# Altium footprint library RESISTORS.PcbLib: 18 footprints (part 1 of 2)
Each footprint in its own frame and in the unit in brackets; x right, y up, seen from the top. Pads: shape width x height; smd on the part's side, far side on the other; paste and mask are expansions set on the pad; w line width, h text height; cw(c..) or ccw(c..) is an arc to the next point about the centre after c.
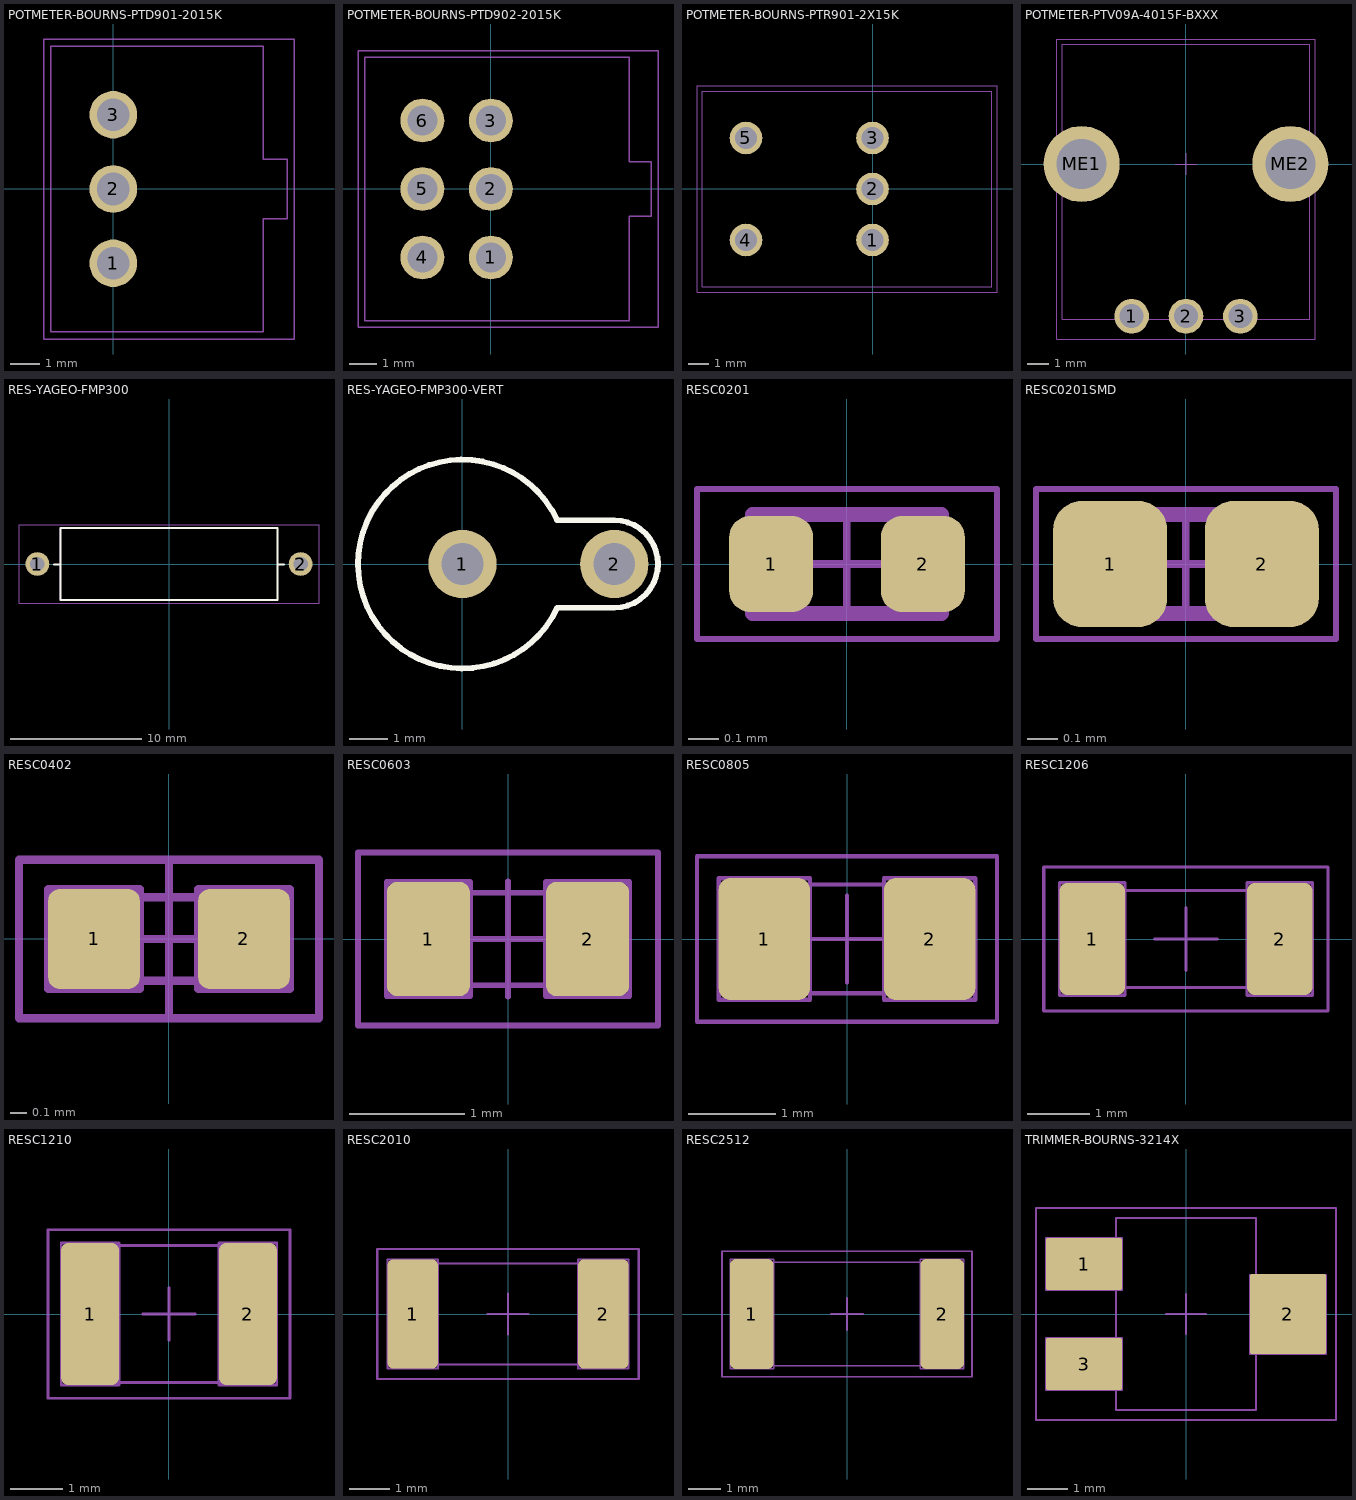
[diagram p0: the footprints below, top view; thin cyan lines are the x and y axes]

## POTMETER-BOURNS-PTD901-2015K [mm]
pads (3):
  round 1.6 hole 1.1: 1(0,-2.5) 2(0,0) 3(0,2.5)
Top Courtyard:
  lines w0.05: -0.5,0 0,0 ; 0,-0.5 0,0 ; 0,0.5 0,0 ; 0.5,0 0,0 ; -2.35,-5.05 -2.35,5.05 6.1,5.05 6.1,-5.05 -2.35,-5.05
Top Assembly:
  lines w0.05: 5.05,-1 5.05,-1 ; 5.05,-4.8 -2.1,-4.8 -2.1,4.8 5.05,4.8 5.05,1 ; 5.05,-4.8 5.05,-1 ; 5.05,-4.8 5.05,-4.8 ; 5.05,-1 5.85,-1 5.85,1 5.05,1 ; 5.05,1 5.05,1
3D body "ptd901-xx15k-xxxx.stp": height 11.36, standoff -3.49, extent -2.1,-4.8 20.05,4.8
3D body "Davies 1900H (blue).stp": height 12.85, standoff 0.15, extent 11,-6.348 27,6.347

## POTMETER-BOURNS-PTD902-2015K [mm]
pads (6):
  round 1.6 hole 1.1: 1(0,-2.5) 2(0,0) 3(0,2.5) 4(-2.5,-2.5) 5(-2.5,0) 6(-2.5,2.5)
Top Courtyard:
  lines w0.05: -0.5,0 0,0 ; 0,-0.5 0,0 ; 0,0.5 0,0 ; 0.5,0 0,0 ; -4.85,-5.05 -4.85,5.05 6.1,5.05 6.1,-5.05 -4.85,-5.05
Top Assembly:
  lines w0.05: 5.05,4.8 -4.6,4.8 -4.6,-4.8 5.05,-4.8 5.05,-1 5.85,-1 5.85,1 5.05,1 5.05,4.8 ; 5.05,4.8 5.05,4.8
3D body "Davies 1900H (blue).stp": height 12.85, standoff 0.15, extent 11,-6.348 27,6.347
3D body "ptd902-xx15k-xxxx.stp": height 11.36, standoff -3.49, extent -4.6,-4.8 20.05,4.8

## POTMETER-BOURNS-PTR901-2X15K [mm]
pads (5):
  round 1.6 hole 1.1: 1(0,-2.5) 2(0,0) 3(0,2.5) 4(-6.2,-2.5) 5(-6.2,2.5)
Top Courtyard:
  lines w0.05: -0.5,0 0,0 ; 0,-0.5 0,0 ; 0,0.5 0,0 ; 0.5,0 0,0 ; -8.6,-5.05 -8.6,5.05 6.1,5.05 6.1,-5.05 -8.6,-5.05
Top Assembly:
  lines w0.05: -8.35,-4.8 -8.35,4.8 5.85,4.8 5.85,-4.8 -8.35,-4.8
3D body "ptr901-2x15k-xxxx.stp": height 11.36, standoff -3.49, extent -8.35,-4.8 20.05,4.8
3D body "Davies 1900H (blue).stp": height 12.85, standoff 0.15, extent 11,-6.348 27,6.347

## POTMETER-PTV09A-4015F-BXXX [mm]
pads (5):
  round 1.6 hole 1.1: 1(-2.5,-7) 2(0,-7) 3(2.5,-7)
  round 3.5 hole 2.3 unplated: ME1(-4.8,0) ME2(4.8,0)
Top Courtyard:
  lines w0.05: -0.5,0 0,0 ; 0,-0.5 0,0 ; 0,0.5 0,0 ; 0.5,0 0,0 ; -5.95,-8.05 -5.95,5.75 5.95,5.75 5.95,-8.05 -5.95,-8.05
Top Assembly:
  lines w0.05: -5.7,-7.15 -5.7,5.5 5.7,5.5 5.7,-7.15 -5.7,-7.15
3D body "ptv09a-4x15f-xxxx.stp": height 15.01, standoff -3.97, extent -5.7,-7.15 5.7,5.5

## RES-YAGEO-FMP300 [mm] "YAGEO FMP300, 3W, 20mm Pitch, 6mm Body Dia"
pads (2):
  round 1.8 hole 1.1 paste-2539.97 mask-1: 1(-10,0) 2(10,0)
Top Overlay:
  lines w0.15: -8.75,-0.025 -8.25,-0.025 ; 8.25,-0.025 8.75,-0.025 ; -8.25,-0.025 -8.25,-2.75 8.25,-2.75 8.25,2.75 -8.25,2.75 -8.25,-0.025
Bottom Courtyard:
  lines w0.05: -11.4,-3 -11.4,0 -11.4,3 11.4,3 11.4,0.025 11.4,-3 -11.4,-3
Bottom Assembly:
  lines w0.05: -8.25,-2.75 8.25,-2.75 8.25,1.925 8.25,2.75 -8.25,2.75 -8.25,-2.75

## RES-YAGEO-FMP300-VERT [mm] "YAGEO FMP300, 3W, 4mm Pitch, 6mm Body Dia, VERTICAL"
pads (2):
  round 1.8 hole 1.1 paste-2539.97 mask+0.1: 1(0,0) 2(4,0)
Top Overlay:
  lines w0.15: 2.489,1.168 ccw(c2.508,1.168) 2.508,1.15 4,1.15 cw(c4,0) 4,-1.15 2.498,-1.15 cw(c0,0) 2.489,1.168
3D body: height 18.4, standoff -1.6, extent 3.575,-0.425 4.425,0.425
3D body "FMP300.STEP": height 18.51, standoff -1.49, extent -2.75,-2.738 2.75,2.738
3D body: height 18.88, standoff 17.92, extent 0,-0.477 4,0.477
3D body: height 18.82, standoff 17.97, extent 3.575,-0.425 4.425,0.425
3D body: height 18.82, standoff 17.97, extent -0.425,-0.425 0.425,0.425

## RESC0201 [mm] "RES, 0201 Chip Resistor, 2-Leads, Body 0.60x0.30mm, IPC High Density"
height 0.26
pads (2):
  rrect50% 0.28x0.32 smd mask+0.05: 1(-0.253,0) 2(0.253,0)
Top Courtyard:
  lines w0.02: -0.5,-0.25 0.5,-0.25 0.5,0.25 -0.5,0.25 -0.5,-0.25
  lines w0.025: -0.165,0 0.165,0 ; 0,-0.165 0,0.165
Bottom Assembly:
  lines w0.05: -0.315,-0.165 0.315,-0.165 0.315,0.165 -0.315,0.165 -0.315,-0.165
3D body "RESC0603X03L.step": height 0.26, standoff 0, extent -0.315,-0.165 0.315,0.165

## RESC0201SMD [mm] "RES, 0201 Chip Resistor, 2-Leads, Body 0.60x0.30mm, IPC High Density SOLDERMASK DEFINED"
height 0.26
pads (2):
  rrect50% 0.38x0.42 smd paste-0.05 mask-0.05: 1(-0.253,0) 2(0.253,0)
Top Courtyard:
  lines w0.02: -0.5,-0.25 -0.5,0.25 0.5,0.25 0.5,-0.25 -0.5,-0.25
  lines w0.025: -0.165,0 0.165,0 ; 0,-0.165 0,0.165
Bottom Assembly:
  lines w0.05: -0.315,-0.165 -0.315,0.165 0.315,0.165 0.315,-0.165 -0.315,-0.165
3D body "RESC0603X03L.step": height 0.26, standoff 0, extent -0.315,-0.165 0.315,0.165

## RESC0402 [mm] "RESISTOR, CHIP 0402 (1005)"
height 0.274
pads (2):
  rrect25% 0.55x0.6 smd paste+0 mask+0.075: 1(-0.45,0) 2(0.45,0)
Top Courtyard:
  lines w0.05: -0.5,0 0,0 ; 0,-0.475 0,0 ; 0,0.475 0,0 ; 0.5,0 0,0 ; -0.9,-0.475 0.9,-0.475 0.9,0.475 -0.9,0.475 -0.9,-0.475
Top Assembly:
  lines w0.05: -0.725,-0.3 -0.175,-0.3 -0.175,0.3 -0.725,0.3 -0.725,-0.3 ; -0.5,-0.251 -0.5,0.251 0.5,0.251 0.5,-0.251 -0.5,-0.251 ; 0.175,-0.3 0.175,0.3 0.725,0.3 0.725,-0.3 0.175,-0.3
3D body "User Library-R0402.step": height 0.27, standoff 0, extent -0.5,-0.251 0.5,0.251

## RESC0603 [mm] "RESISTOR, CHIP 0603 (1608)"
height 0.374
pads (2):
  rrect25% 0.72x0.99 smd paste+0 mask+0.075: 1(-0.69,0) 2(0.69,0)
Top Courtyard:
  lines w0.05: -0.5,0 0,0 ; 0,-0.5 0,0 ; 0,0.5 0,0 ; 0.5,0 0,0 ; -1.3,-0.75 -1.3,0.75 1.3,0.75 1.3,-0.75 -1.3,-0.75
Top Assembly:
  lines w0.05: -1.05,-0.495 -0.33,-0.495 -0.33,0.495 -1.05,0.495 -1.05,-0.495 ; -0.8,-0.401 0.8,-0.401 0.8,0.401 -0.8,0.401 -0.8,-0.401 ; 0.33,-0.495 1.05,-0.495 1.05,0.495 0.33,0.495 0.33,-0.495
3D body "SW3dPS-R0603.STEP": height 0.37, standoff 0, extent -0.8,-0.401 0.8,0.401

## RESC0805 [mm] "RESISTOR, CHIP 0805 (2012)"
height 0.474
pads (2):
  rrect25% 1.05x1.4 smd paste+0 mask+0.075: 1(-0.95,0) 2(0.95,0)
Top Courtyard:
  lines w0.05: -0.5,0 0,0 ; 0,-0.5 0,0 ; 0,0.5 0,0 ; 0.5,0 0,0 ; -1.725,-0.95 1.725,-0.95 1.725,0.95 -1.725,0.95 -1.725,-0.95
Top Assembly:
  lines w0.05: -1.475,-0.7 -0.425,-0.7 -0.425,0.7 -1.475,0.7 -1.475,-0.7 ; -1,-0.626 1,-0.626 1,0.626 -1,0.626 -1,-0.626 ; 0.425,-0.7 1.475,-0.7 1.475,0.7 0.425,0.7 0.425,-0.7
3D body "User Library-R0805.step": height 0.47, standoff 0, extent -1,-0.626 1,0.626

## RESC1206 [mm] "RESISTOR, CHIP 1206 (3216)"
height 0.474
pads (2):
  rrect25% 1.05x1.8 smd paste+0 mask+0.075: 1(-1.5,0) 2(1.5,0)
Top Courtyard:
  lines w0.05: -0.5,0 0,0 ; 0,-0.5 0,0 ; 0,0.5 0,0 ; 0.5,0 0,0 ; -2.275,-1.15 2.275,-1.15 2.275,1.15 -2.275,1.15 -2.275,-1.15
Top Assembly:
  lines w0.05: -2.025,-0.9 -0.975,-0.9 -0.975,0.9 -2.025,0.9 -2.025,-0.9 ; -1.55,-0.776 1.55,-0.776 1.55,0.776 -1.55,0.776 -1.55,-0.776 ; 0.975,-0.9 2.025,-0.9 2.025,0.9 0.975,0.9 0.975,-0.9
3D body "User Library-R1206.step": height 0.47, standoff 0, extent -1.55,-0.776 1.55,0.776

## RESC1210 [mm] "RESISTOR, CHIP 1210 (3225)"
height 0.474
pads (2):
  rrect25% 1.1x2.7 smd paste+0 mask+0.075: 1(-1.5,0) 2(1.5,0)
Top Courtyard:
  lines w0.05: -0.5,0 0,0 ; 0,-0.5 0,0 ; 0,0.5 0,0 ; 0.5,0 0,0 ; -2.3,-1.6 -2.3,1.6 2.3,1.6 2.3,-1.6 -2.3,-1.6
Top Assembly:
  lines w0.05: -2.05,-1.35 -2.05,1.35 -0.95,1.35 -0.95,-1.35 -2.05,-1.35 ; -1.55,-1.301 -1.55,1.301 1.55,1.301 1.55,-1.301 -1.55,-1.301 ; 0.95,-1.35 0.95,1.35 2.05,1.35 2.05,-1.35 0.95,-1.35
3D body "User Library-R1210.step": height 0.47, standoff 0, extent -1.55,-1.301 1.55,1.301

## RESC2010 [mm] "RESISTOR, CHIP 2010 (5025)"
height 0.474
pads (2):
  rrect25% 1.25x2.7 smd paste+0 mask+0.075: 1(-2.35,0) 2(2.35,0)
Top Courtyard:
  lines w0.05: -0.5,0 0,0 ; 0,-0.5 0,0 ; 0,0.5 0,0 ; 0.5,0 0,0 ; -3.225,-1.6 -3.225,1.6 3.225,1.6 3.225,-1.6 -3.225,-1.6
Top Assembly:
  lines w0.05: -2.975,-1.35 -2.975,1.35 -1.725,1.35 -1.725,-1.35 -2.975,-1.35 ; -2.5,-1.251 -2.5,1.251 2.5,1.251 2.5,-1.251 -2.5,-1.251 ; 1.725,-1.35 1.725,1.35 2.975,1.35 2.975,-1.35 1.725,-1.35
3D body "User Library-R2010.step": height 0.47, standoff 0, extent -2.5,-1.251 2.5,1.251

## RESC2512 [mm] "RESISTOR, CHIP 2512 (6332)"
height 0.474
pads (2):
  rrect25% 1.35x3.4 smd paste+0 mask+0.075: 1(-2.95,0) 2(2.95,0)
Top Courtyard:
  lines w0.05: -0.5,0 0,0 ; 0,-0.5 0,0 ; 0,0.5 0,0 ; 0.5,0 0,0 ; -3.875,-1.95 -3.875,1.95 3.875,1.95 3.875,-1.95 -3.875,-1.95
Top Assembly:
  lines w0.05: -3.625,-1.7 -3.625,1.7 -2.275,1.7 -2.275,-1.7 -3.625,-1.7 ; -3.175,-1.601 -3.175,1.601 3.175,1.601 3.175,-1.601 -3.175,-1.601 ; 2.275,-1.7 2.275,1.7 3.625,1.7 3.625,-1.7 2.275,-1.7
3D body "User Library-R2512.step": height 0.47, standoff 0, extent -3.175,-1.601 3.175,1.601

## TRIMMER-BOURNS-3214X [mm] "RESSITOR,TRIMMER,BOURNS,3214X FAMILY"
pads (3):
  rrect7% 1.9x1.3 smd: 1(-2.55,1.25) 3(-2.55,-1.25)
  rrect5% 1.9x2 smd: 2(2.55,0)
Top Courtyard:
  lines w0.05: -0.5,0 0,0 ; 0,-0.5 0,0 ; 0,0.5 0,0 ; 0.5,0 0,0
Top Assembly:
  lines w0.05: -3.5,-1.9 -1.6,-1.9 -1.6,-0.6 -2.8,-0.6 -3.5,-0.6 -3.5,-1.9 ; -3.5,0.6 -1.6,0.6 -1.6,1.9 -2.8,1.9 -3.5,1.9 -3.5,0.6 ; 1.6,-1 3.5,-1 3.5,0.975 2.625,0.975 1.6,0.975 1.6,-1
Mechanical 13:
  lines w0.05: -1.75,-2.4 1.75,-2.4 1.75,2.4 -1.75,2.4 -1.75,-2.4
Mechanical 15:
  lines w0.05: -3.75,-2.65 3.75,-2.65 3.75,2.65 -3.75,2.65 -3.75,-2.65
3D body "3214X-1-103E.STEP": height 5.31, standoff 0.01, extent -2.825,-2.325 2.875,2.475